# EAGLE library part CHR_UM6 (library elcanoParts)
Tilt sensor
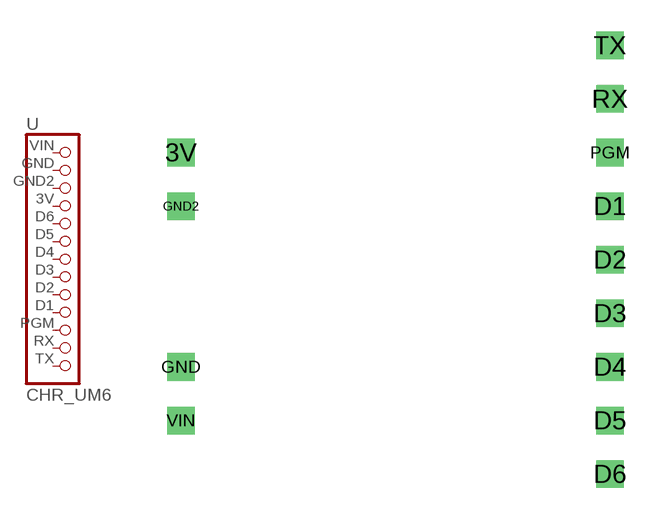
[diagram p5: symbol with the pads of CHR_UM6; footprint CHR_UM6]

Designator prefix -

## CHR_UM6  [CHR_UM6]
3V  4  pas
D1  10  pas
D2  9  pas
D3  8  pas
D4  7  pas
D5  6  pas
D6  5  pas
GND  2  pas
GND2  3  pas
PGM  11  pas
RX  12  pas
TX  13  pas
VIN  1  pas

## Footprint CHR_UM6 (pad centres in mm)
Tilt sensor
drill 0.8 square: 3V 0,15.24; D1 20.32,12.7; D2 20.32,10.16; D3 20.32,7.62; D4 20.32,5.08; D5 20.32,2.54; D6 20.32,0; GND 0,5.08; GND2 0,12.7; PGM 20.32,15.24; RX 20.32,17.78; TX 20.32,20.32; VIN 0,2.54